# EAGLE library part STTS22HTR (library STTS22HTR)
Board Mount Temperature Sensors Low-voltage, ultra-low-power, 0.5 degree C accuracy I2C/SMBus 3.0 temperature sensor Source: Datasheet <https://www.mouser.com/datasheet/2/389/stts22h-1663205.pdf>
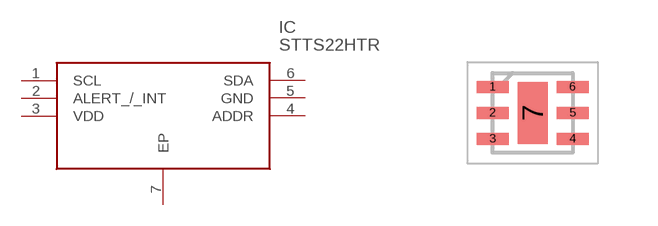
[diagram p0: symbol with the pads of SON65P200X200X55-7N; footprint SON65P200X200X55-7N]

Designator prefix IC

## STTS22HTR (Arrow_Part_Number: STTS22HTR; Arrow_Price-Stock: https://www.arrow.com/en/products/stts22htr/stmicroelectronics?utm_currency=USD&region=europe; Description: Board Mount Temperature Sensors Low-voltage, ultra-low-power, 0.5 degree C accuracy I2C/SMBus 3.0 temperature sensor; Height: 0.55mm; Manufacturer_Name: STMicroelectronics; Manufacturer_Part_Number: STTS22HTR; Mouser_Part_Number: 511-STTS22HTR; Mouser_Price-Stock: https://www.mouser.co.uk/ProductDetail/STMicroelectronics/STTS22HTR?qs=%252B6g0mu59x7LCfjXXPvLkpg%3D%3D)  [SON65P200X200X55-7N]
1  SCL
2  ALERT_/_INT
3  VDD
4  ADDR
5  GND
6  SDA
7  EP

## Footprint SON65P200X200X55-7N (pad centres in mm)
UDFN-6L
smd 0.8 x 0.3: 1 -1,0.65; 2 -1,0; 3 -1,-0.65; 4 1,-0.65; 5 1,0; 6 1,0.65
smd 0.75 x 1.55: 7 0,0